# EAGLE library part MB81C75CV (library micro-fujitsu)
MICROCONTROLLER/MEMORY DEVICE
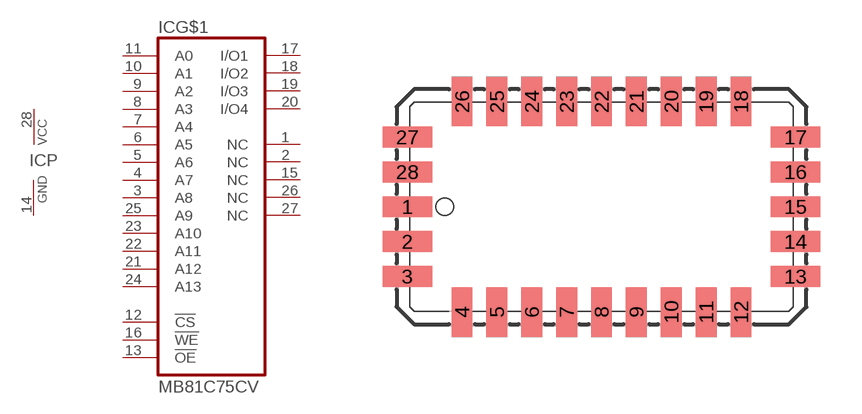
[diagram p23: symbol with the pads of LCC28; footprint LCC28]

Designator prefix IC; gates G$1=MB81C75C P=VCC-GND

## MB81C75CV (OC_FARNELL: unknown; OC_NEWARK: unknown)  [LCC28]
1  G$1:NC  nc
2  G$1:NC  nc
3  G$1:A8  in
4  G$1:A7  in
5  G$1:A6  in
6  G$1:A5  in
7  G$1:A4  in
8  G$1:A3  in
9  G$1:A2  in
10  G$1:A1  in
11  G$1:A0  in
12  G$1:!CS  in
13  G$1:!OE  in
14  P:GND  pwr
15  G$1:NC  nc
16  G$1:!WE  in
17  G$1:I/O1
18  G$1:I/O2
19  G$1:I/O3
20  G$1:I/O4  nc
21  G$1:A12  in
22  G$1:A11  in
23  G$1:A10  in
24  G$1:A13  in
25  G$1:A9  in
26  G$1:NC  nc
27  G$1:NC  nc
28  P:VCC  pwr

## Footprint LCC28 (pad centres in mm)
LEADED CHIP CARRIER rectangle
smd 1.8 x 0.76: 1 -7.07,0.635; 2 -7.07,-0.635; 3 -7.07,-1.905; 13 7.07,-1.905; 14 7.07,-0.635; 15 7.07,0.635; 16 7.07,1.905; 17 7.07,3.175; 27 -7.07,3.175; 28 -7.07,1.905
smd 0.76 x 1.8: 4 -5.08,-3.2; 5 -3.81,-3.2; 6 -2.54,-3.2; 7 -1.27,-3.2; 8 0,-3.2; 9 1.27,-3.2; 10 2.54,-3.2; 11 3.81,-3.2; 12 5.08,-3.2; 18 5.08,4.47; 19 3.81,4.47; 20 2.54,4.47; 21 1.27,4.47; 22 0,4.47; 23 -1.27,4.47; 24 -2.54,4.47; 25 -3.81,4.47; 26 -5.08,4.47